# EAGLE library part SWITCH-DPDT (library darnok_switches)
Double-Pole, Double-Throw (DPDT) Switch Double-pole, double-throw switches. JS202011SCQN http://www.farnell.com/datasheets/2674788.pdf
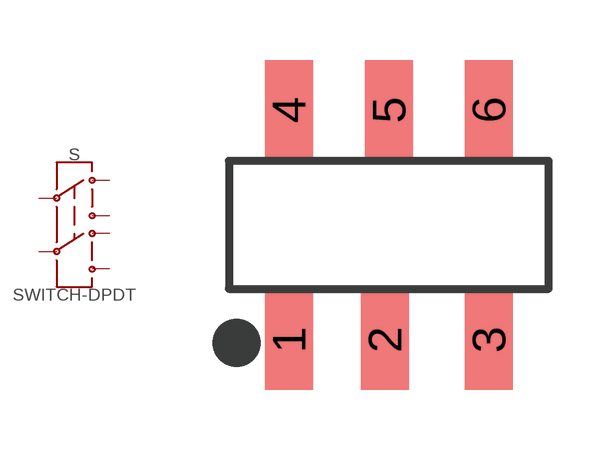
[diagram p0: symbol with the pads of SWITCH_DPDT_SMD_JS2020; footprint SWITCH_DPDT_SMD_JS2020]

Designator prefix S

## SWITCH-DPDT  [SWITCH_DPDT_SMD_JS2020]
1  1
2  2
3  3
4  4
5  5
6  6

## Footprint SWITCH_DPDT_SMD_JS2020 (pad centres in mm)
C&K JS2020SCQN DPDT Switch - SMD Double-pole, double-throw switches. Datasheet <http://www.farnell.com/datasheets/2674788.pdf>
smd 1.2 x 2.5: 1 -2.5,-2.925; 2 -0.1,-2.925; 3 2.5,-2.925; 4 -2.5,2.825; 5 0,2.825; 6 2.5,2.825